# EAGLE library part TS5A23157DGSR (library nanoeeg)
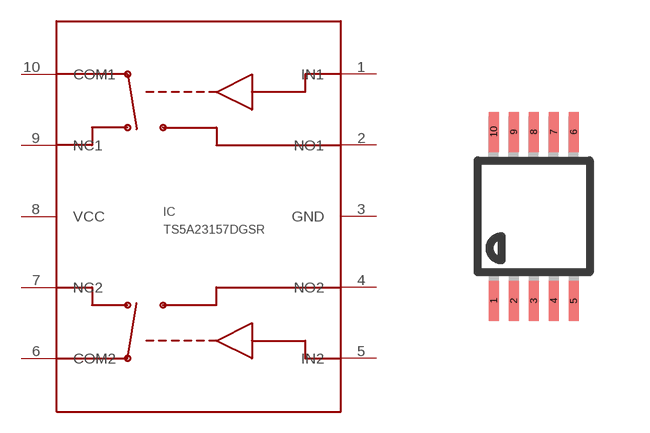
[diagram p3: symbol with the pads of TS5A23157DGSR; footprint TS5A23157DGSR]

Designator prefix IC

## TS5A23157DGSR  [TS5A23157DGSR]
1  IN1
2  NO1
3  GND
4  NO2
5  IN2
6  COM2
7  NC2
8  VCC
9  NC1
10  COM1

## Footprint TS5A23157DGSR (pad centres in mm)
10-Lead Mini Small Outline Package [MSOP] (RM-10) Source: http://www.analog.com/UploadedFiles/Data_Sheets/35641221898805SSM2167_b.pdf COMPLIANT TO JEDEC STANDARDS MO-187BA
smd 0.25 x 1: 1 -1,-2.113; 2 -0.5,-2.113; 3 0,-2.113; 4 0.5,-2.113; 5 1,-2.113; 6 1,2.113; 7 0.5,2.113; 8 0,2.113; 9 -0.5,2.113; 10 -1,2.113